# EAGLE library part I__4541 (library ..SMD)
OSCILLATOR/PROGRAMMABLE TIMER
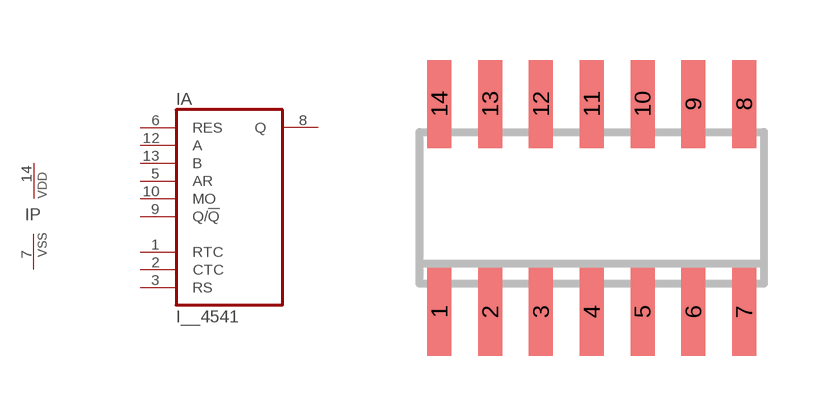
[diagram p121: symbol with the pads of SO14; footprint SO14]

Designator prefix I; gates A=4541 P=PWRN

## I__4541D  [SO14]
1  A:RTC  in
2  A:CTC  in
3  A:RS  in
5  A:AR  in
6  A:RES  in
7  P:VSS  pwr
8  A:Q  out
9  A:Q/!Q  in
10  A:MO  in
12  A:A  in
13  A:B  in
14  P:VDD  pwr

## Footprint SO14 (pad centres in mm)
Small Outline Package 14
smd 0.6 x 2.2: 1 -3.81,-2.6; 2 -2.54,-2.6; 3 -1.27,-2.6; 4 0,-2.6; 5 1.27,-2.6; 6 2.54,-2.6; 7 3.81,-2.6; 8 3.81,2.6; 9 2.54,2.6; 10 1.27,2.6; 11 0,2.6; 12 -1.27,2.6; 13 -2.54,2.6; 14 -3.81,2.6